# Altium footprint library LPPB061NGCN-RC.PcbLib: 1 footprints
Each footprint in its own frame and in the unit in brackets; x right, y up, seen from the top. Pads: shape width x height; smd on the part's side, far side on the other; paste and mask are expansions set on the pad; w line width, h text height; cw(c..) or ccw(c..) is an arc to the next point about the centre after c.
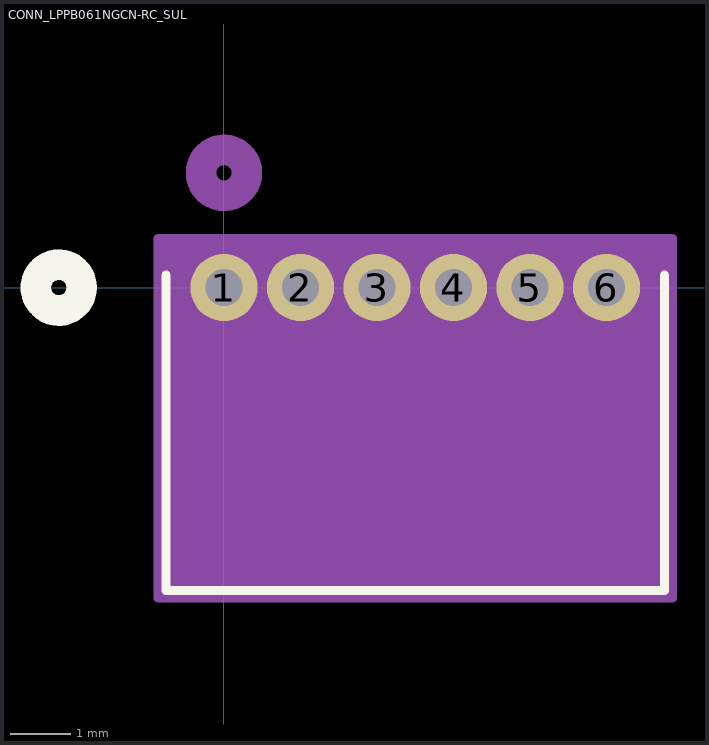
[diagram p0: the footprint, top view; thin cyan lines are the x and y axes]

## CONN_LPPB061NGCN-RC_SUL [mil]
pads (6):
  round 44 / inner round 60 / far side round 44 hole 24 paste-22 mask+0: 1(0,0) 2(50,0) 3(100,0) 4(150,0) 5(200,0) 6(250,0)
Top Overlay:
  circle w20: c-108,0 r15
  lines w6: -38,8 -38,-198 288,-198 288,8
Bottom Overlay:
  circle w20: c-108,0 r15
Mechanical 13:
  circle w20: c0,75 r15
  lines w1: -33,-193 283,-193 283,3 -33,3 -33,-193
Mechanical 15:
  region: 293,32 -43,32 -43,-203 293,-203
  lines w6: -43,-203 -43,32 293,32 293,-203 -43,-203